# Altium schematic symbol library Giger-Counter-Schlib.SchLib: 16 symbols
Pins are listed as number, name and electrical type; pins without a type are passive.

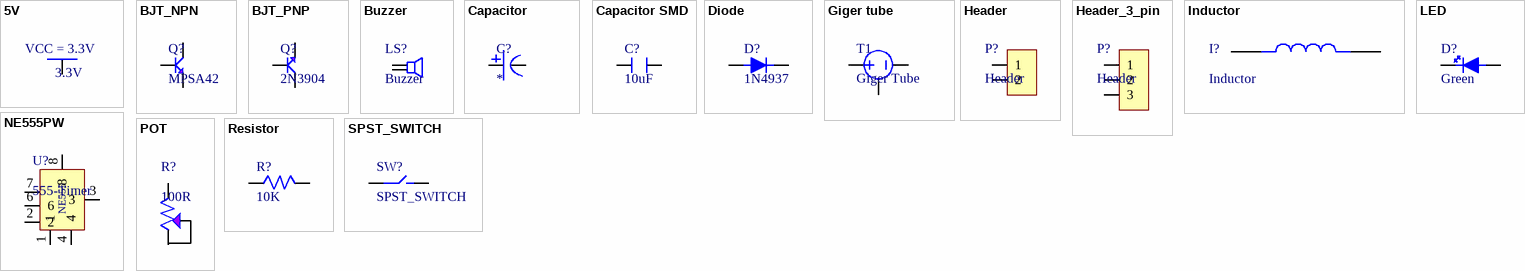
[diagram p0: symbols 5V to SPST_SWITCH]

## 5V
designator 3.3V, comment 3.3V
pins: 1
text: VCC = 3.3V

## BJT_NPN
designator Q?, comment MPSA42
pins: 1, 2, 3

## BJT_PNP
designator Q?, comment 2N3904
pins: 1, 2, 3

## Buzzer
designator LS?
pins: 1, 2

## Capacitor
designator C?
pins: 1, 2

## Capacitor SMD
designator C?, comment 10uF
pins: 1, 2

## Diode
designator D?, comment 1N4937
Manufacturer: Wurth Electronics; Manufacturer Part Number: 150060VS75000; Color: Green; Luminous Intensity: 40mcd; Viewing Angle: 140°; Forward Voltage: 2V; Wavelength: 570nm; Lens Style: Clear,Rectangular; Forward Current: 30mA; Test Current: 20mA; Supplier 1: Digi-Key; RoHS: Yes; Category: LEDs; Stock 1: 278681; Pricing 1: 1=0.15000, 50=0.14200, 100=0.12200, 500=0.10500, 1000=0.09900 (USD); Mount: Surface Mount; Case/Package: 0603; Number of Pins: 2; Case Code (Metric): 1608; Case Code (Imperial): 0603; Min Operating Temperature: -40°C; Max Operating Temperature: 85°C; Package Quantity: 1; Packaging: Tape and Reel; Dominant Wavelength: 570nm; Length: 1.6mm; Width: 0.8mm; Height: 0.7mm; REACH SVHC: Unknown; RoHS Compliant: Yes; ComponentLink1URL: https://datasheet.ciiva.com/29562/150060vs75000-29562919.pdf?src-supplier=Digi-Key; ComponentLink1Description: https://datasheet.ciiva.com/29562/150060vs75000-29562919.pdf?src-supplier=Digi-Key; Supplier Part Number 1: 732-4980-1-ND
pins: 1, 2

## Giger tube
designator T1, comment Giger Tube
pins: 1, 2, 3

## Header
designator P?
pins: 1, 2

## Header_3_pin
designator P?, comment Header
pins: 1, 2, 3

## Inductor
designator I?
pins: 1, 2

## LED
designator D?, comment Green
Led, Green, 570 Nm, 2 V, 30 Ma, 40 Mcd Rohs Compliant: Yes; Manufacturer: Wurth Electronics; Manufacturer Part Number: 150060VS75000; Luminous Intensity: 40mcd; Viewing Angle: 140°; Forward Voltage: 2V; Wavelength: 570nm; Lens Style: Clear,Rectangular; Forward Current: 30mA; Test Current: 20mA; Supplier 1: Digi-Key; RoHS: Yes; Category: LEDs; Stock 1: 278681; Pricing 1: 1=0.15000, 50=0.14200, 100=0.12200, 500=0.10500, 1000=0.09900 (USD); Mount: Surface Mount; Case/Package: 0603; Number of Pins: 2; Color: Green; Case Code (Metric): 1608; Case Code (Imperial): 0603; Min Operating Temperature: -40°C; Max Operating Temperature: 85°C; Package Quantity: 1; Packaging: Tape and Reel; Dominant Wavelength: 570nm; Length: 1.6mm; Width: 0.8mm; Height: 0.7mm; REACH SVHC: Unknown; RoHS Compliant: Yes; ComponentLink1URL: https://datasheet.ciiva.com/29562/150060vs75000-29562919.pdf?src-supplier=Digi-Key; ComponentLink1Description: https://datasheet.ciiva.com/29562/150060vs75000-29562919.pdf?src-supplier=Digi-Key; Supplier Part Number 1: 732-4980-1-ND
pins: 1, 2

## NE555PW
designator U?, comment 555-Timer
Single Precision Timer 8-TSSOP 0 to 70; Manufacturer: Texas Instruments; Manufacturer Part Number: NE555PW; Frequency: 100kHz; Max Supply Voltage: 16V; Min Supply Voltage: 4.5V; Nominal Supply Current: 2mA; Operating Supply Current: 10mA; Number of Timers/Counters: 1; High Level Output Current: -200mA; Low Level Output Current: 200mA; Quiescent Current: 15mA; Supplier 1: Mouser; RoHS: Yes; Category: Timers and Oscillators; Stock 1: 173; Pricing 1: 1=0.88000, 10=0.79200, 25=0.75100, 50=0.75100, 100=0.61700, 300=0.57600, 600=0.50300, 1000=0.50300, 1050=0.45100, 3000=0.38900, 10000=0.38900 (USD); Mount: Surface Mount; Case/Package: TSSOP; Number of Pins: 8; Weight: 0.001376oz; Min Operating Temperature: 0°C; Max Operating Temperature: 70°C; Package Quantity: 150; Packaging: Rail/Tube; Series: NE555; Supply Current: 2mA; Radiation Hardening: No; Lead Free: Lead Free; RoHS Compliant: Yes; ComponentLink1URL: https://datasheet.ciiva.com/1233/ne555-1233456.pdf?src-supplier=Digi-Key; ComponentLink1Description: https://datasheet.ciiva.com/1233/ne555-1233456.pdf?src-supplier=Digi-Key; ComponentLink2URL: https://datasheet.ciiva.com/14273/se555m-14273680.pdf?src-supplier=Avnet; ComponentLink2Description: https://datasheet.ciiva.com/14273/se555m-14273680.pdf?src-supplier=Avnet; ComponentLink3URL: https://datasheet.ciiva.com/15152/getdatasheetpartid-49652-15152550.pdf?src-supplier=Verical; ComponentLink3Description: https://datasheet.ciiva.com/15152/getdatasheetpartid-49652-15152550.pdf?src-supplier=Verical; Supplier Part Number 1: 595-NE555PW
pins: 1, 2, 3, 4, 6, 7, 8

## POT
designator R?, comment 100R
pins: 1, 2

## Resistor
designator R?, comment 10K
pins: 1, 2

## SPST_SWITCH
designator SW?
pins: 1, 2